# Altium footprint library SOP_80P_L.PcbLib: 9 footprints
Each footprint in its own frame and in the unit in brackets; x right, y up, seen from the top. Pads: shape width x height; smd on the part's side, far side on the other; paste and mask are expansions set on the pad; w line width, h text height; cw(c..) or ccw(c..) is an arc to the next point about the centre after c.
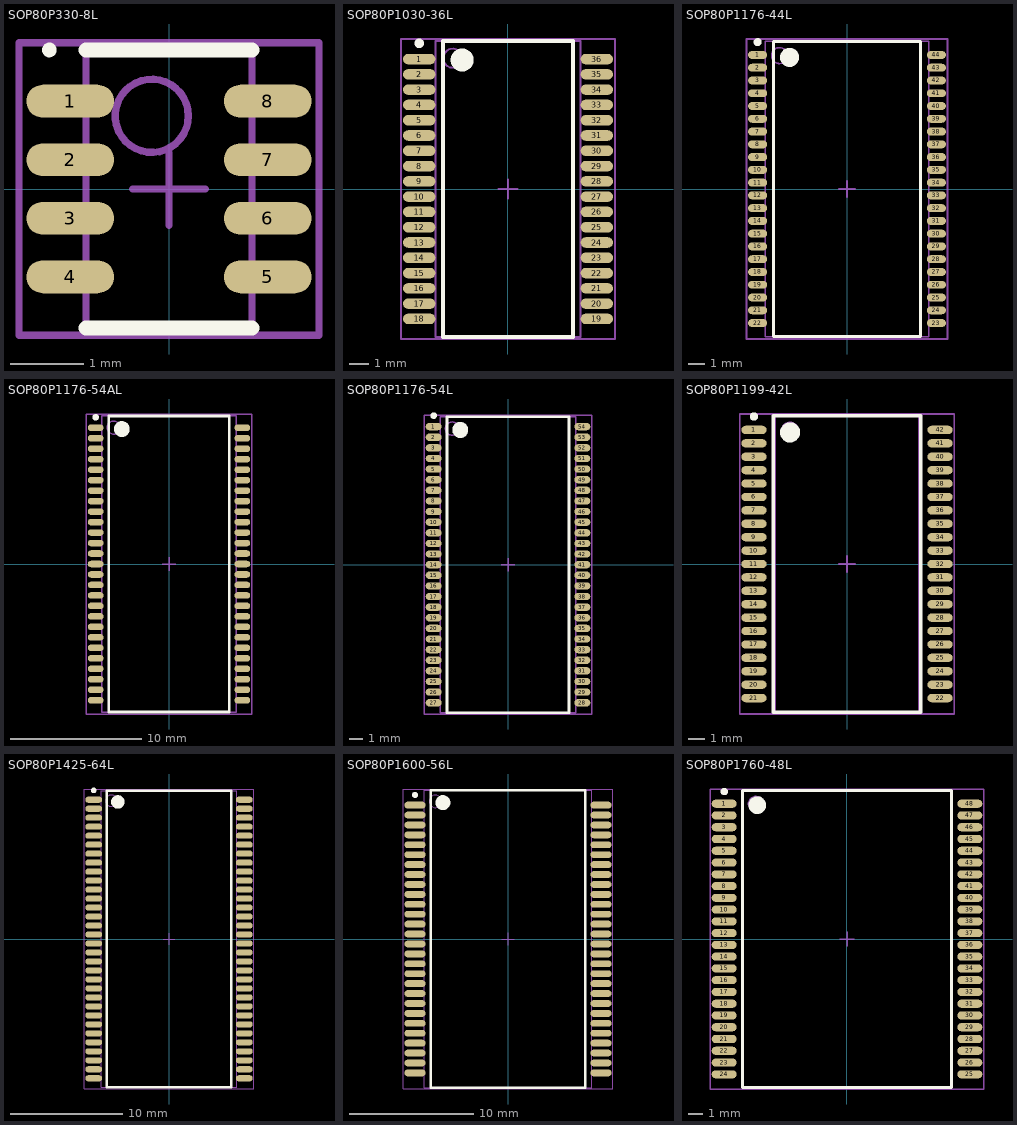
[diagram p0: the footprints below, top view; thin cyan lines are the x and y axes]

## SOP80P330-8L [mm] "SOP, 8-Leads, Body 3.5x2.2mm, Pitch 0.8mm, IPC High Density"
height 1.4
pads (8):
  oval 1.2x0.45 smd: 1(-1.35,1.2) 2(-1.35,0.4) 3(-1.35,-0.4) 4(-1.35,-1.2) 5(1.35,-1.2) 6(1.35,-0.4) 7(1.35,0.4) 8(1.35,1.2)
Top Overlay:
  circle w0.1: c-1.635,1.9 r0.05
  lines w0.2: -1.135,-1.9 1.135,-1.9 ; -1.135,1.9 1.135,1.9
Mechanical 13:
  circle w0.1: c-0.235,1 r0.5
  lines w0.1: -1.135,-1.9 1.135,-1.9 1.135,1.9 -1.135,1.9 -1.135,-1.9
Mechanical 15:
  lines w0.1: -0.5,0 0.5,0 ; 0,-0.5 0,0.5 ; -2.05,-2 2.05,-2 2.05,2 -2.05,2 -2.05,-2
3D body: height 1.4, standoff 0, extent -1.135,-1.9 1.135,1.9

## SOP80P1030-36L [mm] "SOP, 36-Leads, Body 15.4x7.5mm, Pitch 0.8mm, IPC High Density"
height 2.65
pads (36):
  oval 1.7x0.55 smd: 1(-4.65,6.8) 2(-4.65,6) 3(-4.65,5.2) 4(-4.65,4.4) 5(-4.65,3.6) 6(-4.65,2.8) 7(-4.65,2) 8(-4.65,1.2) 9(-4.65,0.4) 10(-4.65,-0.4) 11(-4.65,-1.2) 12(-4.65,-2) 13(-4.65,-2.8) 14(-4.65,-3.6) 15(-4.65,-4.4) 16(-4.65,-5.2) 17(-4.65,-6) 18(-4.65,-6.8) 19(4.65,-6.8) 20(4.65,-6) 21(4.65,-5.2) 22(4.65,-4.4) 23(4.65,-3.6) 24(4.65,-2.8) 25(4.65,-2) 26(4.65,-1.2) 27(4.65,-0.4) 28(4.65,0.4) 29(4.65,1.2) 30(4.65,2) 31(4.65,2.8) 32(4.65,3.6) 33(4.65,4.4) 34(4.65,5.2) 35(4.65,6) 36(4.65,6.8)
Top Overlay:
  circle w0.25: c-4.65,7.625 r0.125
  circle w0.6: c-2.4,6.75 r0.3
  lines w0.2: -3.4,-7.75 -3.4,7.75 3.4,7.75 3.4,-7.75 -3.4,-7.75
Mechanical 13:
  circle w0.1: c-2.885,6.845 r0.5
  lines w0.1: -3.785,-7.745 -3.785,7.745 3.785,7.745 3.785,-7.745 -3.785,-7.745
Mechanical 15:
  lines w0.1: -0.5,0 0.5,0 ; 0,-0.5 0,0.5 ; -5.6,-7.85 -5.6,7.85 5.6,7.85 5.6,-7.85 -5.6,-7.85
3D body: height 2.65, standoff 0, extent -3.785,-7.745 3.785,7.745

## SOP80P1176-44L [mm] "SOP, 44-Leads, Body 18.4x10.16mm, Pitch 0.8mm, IPC High Density"
height 1.2
pads (44):
  oval 1.2x0.5 smd: 1(-5.6,8.4) 2(-5.6,7.6) 3(-5.6,6.8) 4(-5.6,6) 5(-5.6,5.2) 6(-5.6,4.4) 7(-5.6,3.6) 8(-5.6,2.8) 9(-5.6,2) 10(-5.6,1.2) 11(-5.6,0.4) 12(-5.6,-0.4) 13(-5.6,-1.2) 14(-5.6,-2) 15(-5.6,-2.8) 16(-5.6,-3.6) 17(-5.6,-4.4) 18(-5.6,-5.2) 19(-5.6,-6) 20(-5.6,-6.8) 21(-5.6,-7.6) 22(-5.6,-8.4) 23(5.6,-8.4) 24(5.6,-7.6) 25(5.6,-6.8) 26(5.6,-6) 27(5.6,-5.2) 28(5.6,-4.4) 29(5.6,-3.6) 30(5.6,-2.8) 31(5.6,-2) 32(5.6,-1.2) 33(5.6,-0.4) 34(5.6,0.4) 35(5.6,1.2) 36(5.6,2) 37(5.6,2.8) 38(5.6,3.6) 39(5.6,4.4) 40(5.6,5.2) 41(5.6,6) 42(5.6,6.8) 43(5.6,7.6) 44(5.6,8.4)
Top Overlay:
  circle w0.6: c-3.6,8.25 r0.3
  circle w0.25: c-5.6,9.2 r0.125
  lines w0.2: -4.6,-9.25 4.6,-9.25 4.6,9.25 -4.6,9.25 -4.6,-9.25
Mechanical 13:
  circle w0.1: c-4.23,8.36 r0.5
  lines w0.1: -5.13,-9.26 5.13,-9.26 5.13,9.26 -5.13,9.26 -5.13,-9.26
Mechanical 15:
  lines w0.1: -0.5,0 0.5,0 ; 0,-0.5 0,0.5 ; -6.3,-9.4 6.3,-9.4 6.3,9.4 -6.3,9.4 -6.3,-9.4
3D body: height 1.2, standoff 0, extent -5.13,-9.26 5.13,9.26

## SOP80P1176-54AL [mm] "SOP, 54-Leads, Body 22.5x10.16mm, Pitch 0.8mm, IPC High Density"
height 1.2
pads (54):
  oval 1.2x0.5 smd: 1(-5.6,10.4) 2(-5.6,9.6) 3(-5.6,8.8) 4(-5.6,8) 5(-5.6,7.2) 6(-5.6,6.4) 7(-5.6,5.6) 8(-5.6,4.8) 9(-5.6,4) 10(-5.6,3.2) 11(-5.6,2.4) 12(-5.6,1.6) 13(-5.6,0.8) 14(-5.6,0) 15(-5.6,-0.8) 16(-5.6,-1.6) 17(-5.6,-2.4) 18(-5.6,-3.2) 19(-5.6,-4) 20(-5.6,-4.8) 21(-5.6,-5.6) 22(-5.6,-6.4) 23(-5.6,-7.2) 24(-5.6,-8) 25(-5.6,-8.8) 26(-5.6,-9.6) 27(-5.6,-10.4) 28(5.6,-10.4) 29(5.6,-9.6) 30(5.6,-8.8) 31(5.6,-8) 32(5.6,-7.2) 33(5.6,-6.4) 34(5.6,-5.6) 35(5.6,-4.8) 36(5.6,-4) 37(5.6,-3.2) 38(5.6,-2.4) 39(5.6,-1.6) 40(5.6,-0.8) 41(5.6,0) 42(5.6,0.8) 43(5.6,1.6) 44(5.6,2.4) 45(5.6,3.2) 46(5.6,4) 47(5.6,4.8) 48(5.6,5.6) 49(5.6,6.4) 50(5.6,7.2) 51(5.6,8) 52(5.6,8.8) 53(5.6,9.6) 54(5.6,10.4)
Top Overlay:
  circle w0.6: c-3.6,10.3 r0.3
  circle w0.25: c-5.6,11.2 r0.125
  lines w0.2: -4.6,-11.3 4.6,-11.3 4.6,11.3 -4.6,11.3 -4.6,-11.3
Mechanical 13:
  circle w0.1: c-4.22,10.41 r0.5
  lines w0.1: -5.12,-11.31 5.12,-11.31 5.12,11.31 -5.12,11.31 -5.12,-11.31
Mechanical 15:
  lines w0.1: -0.5,0 0.5,0 ; 0,-0.5 0,0.5 ; -6.3,-11.45 6.3,-11.45 6.3,11.45 -6.3,11.45 -6.3,-11.45
3D body: height 1.2, standoff 0, extent -5.12,-11.31 5.12,11.31

## SOP80P1176-54L [mm] "SOP, 54-Leads, Body 22.2x10.16mm, Pitch 0.8mm, IPC High Density"
height 1.2
pads (54):
  oval 1.2x0.55 smd: 1(-5.6,10.4) 2(-5.6,9.6) 3(-5.6,8.8) 4(-5.6,8) 5(-5.6,7.2) 6(-5.6,6.4) 7(-5.6,5.6) 8(-5.6,4.8) 9(-5.6,4) 10(-5.6,3.2) 11(-5.6,2.4) 12(-5.6,1.6) 13(-5.6,0.8) 14(-5.6,0) 15(-5.6,-0.8) 16(-5.6,-1.6) 17(-5.6,-2.4) 18(-5.6,-3.2) 19(-5.6,-4) 20(-5.6,-4.8) 21(-5.6,-5.6) 22(-5.6,-6.4) 23(-5.6,-7.2) 24(-5.6,-8) 25(-5.6,-8.8) 26(-5.6,-9.6) 27(-5.6,-10.4) 28(5.6,-10.4) 29(5.6,-9.6) 30(5.6,-8.8) 31(5.6,-8) 32(5.6,-7.2) 33(5.6,-6.4) 34(5.6,-5.6) 35(5.6,-4.8) 36(5.6,-4) 37(5.6,-3.2) 38(5.6,-2.4) 39(5.6,-1.6) 40(5.6,-0.8) 41(5.6,0) 42(5.6,0.8) 43(5.6,1.6) 44(5.6,2.4) 45(5.6,3.2) 46(5.6,4) 47(5.6,4.8) 48(5.6,5.6) 49(5.6,6.4) 50(5.6,7.2) 51(5.6,8) 52(5.6,8.8) 53(5.6,9.6) 54(5.6,10.4)
Top Overlay:
  circle w0.6: c-3.6,10.15 r0.3
  circle w0.25: c-5.6,11.225 r0.125
  lines w0.2: -4.6,-11.15 4.6,-11.15 4.6,11.15 -4.6,11.15 -4.6,-11.15
Mechanical 13:
  circle w0.1: c-4.22,10.25 r0.5
  lines w0.1: -5.12,-11.15 5.12,-11.15 5.12,11.15 -5.12,11.15 -5.12,-11.15
Mechanical 15:
  lines w0.1: -0.5,0 0.5,0 ; 0,-0.5 0,0.5 ; -6.3,-11.25 6.3,-11.25 6.3,11.25 -6.3,11.25 -6.3,-11.25
3D body: height 1.2, standoff 0, extent -5.12,-11.15 5.12,11.15

## SOP80P1199-42L [mm] "SOP, 42-Leads, Body 17.5x8.4mm, Pitch 0.8mm, IPC High Density"
height 2.4
pads (42):
  oval 1.5x0.5 smd: 1(-5.55,8) 2(-5.55,7.2) 3(-5.55,6.4) 4(-5.55,5.6) 5(-5.55,4.8) 6(-5.55,4) 7(-5.55,3.2) 8(-5.55,2.4) 9(-5.55,1.6) 10(-5.55,0.8) 11(-5.55,0) 12(-5.55,-0.8) 13(-5.55,-1.6) 14(-5.55,-2.4) 15(-5.55,-3.2) 16(-5.55,-4) 17(-5.55,-4.8) 18(-5.55,-5.6) 19(-5.55,-6.4) 20(-5.55,-7.2) 21(-5.55,-8) 22(5.55,-8) 23(5.55,-7.2) 24(5.55,-6.4) 25(5.55,-5.6) 26(5.55,-4.8) 27(5.55,-4) 28(5.55,-3.2) 29(5.55,-2.4) 30(5.55,-1.6) 31(5.55,-0.8) 32(5.55,0) 33(5.55,0.8) 34(5.55,1.6) 35(5.55,2.4) 36(5.55,3.2) 37(5.55,4) 38(5.55,4.8) 39(5.55,5.6) 40(5.55,6.4) 41(5.55,7.2) 42(5.55,8)
Top Overlay:
  circle w0.6: c-3.4,7.85 r0.3
  circle w0.25: c-5.55,8.8 r0.125
  lines w0.2: -4.4,-8.85 4.4,-8.85 4.4,8.85 -4.4,8.85 -4.4,-8.85
Mechanical 13:
  circle w0.1: c-3.4,7.95 r0.5
  lines w0.1: -4.3,-8.85 4.3,-8.85 4.3,8.85 -4.3,8.85 -4.3,-8.85
Mechanical 15:
  lines w0.1: -0.5,0 0.5,0 ; 0,-0.5 0,0.5 ; -6.4,-8.95 6.4,-8.95 6.4,8.95 -6.4,8.95 -6.4,-8.95
3D body: height 2.4, standoff 0, extent -4.3,-8.85 4.3,8.85

## SOP80P1425-64L [mm] "SOP, 64-Leads, Body 26.4x12.1mm, Pitch 0.8mm, IPC High Density"
height 2.38
pads (64):
  oval 1.5x0.55 smd: 1(-6.7,12.4) 2(-6.7,11.6) 3(-6.7,10.8) 4(-6.7,10) 5(-6.7,9.2) 6(-6.7,8.4) 7(-6.7,7.6) 8(-6.7,6.8) 9(-6.7,6) 10(-6.7,5.2) 11(-6.7,4.4) 12(-6.7,3.6) 13(-6.7,2.8) 14(-6.7,2) 15(-6.7,1.2) 16(-6.7,0.4) 17(-6.7,-0.4) 18(-6.7,-1.2) 19(-6.7,-2) 20(-6.7,-2.8) 21(-6.7,-3.6) 22(-6.7,-4.4) 23(-6.7,-5.2) 24(-6.7,-6) 25(-6.7,-6.8) 26(-6.7,-7.6) 27(-6.7,-8.4) 28(-6.7,-9.2) 29(-6.7,-10) 30(-6.7,-10.8) 31(-6.7,-11.6) 32(-6.7,-12.4) 33(6.7,-12.4) 34(6.7,-11.6) 35(6.7,-10.8) 36(6.7,-10) 37(6.7,-9.2) 38(6.7,-8.4) 39(6.7,-7.6) 40(6.7,-6.8) 41(6.7,-6) 42(6.7,-5.2) 43(6.7,-4.4) 44(6.7,-3.6) 45(6.7,-2.8) 46(6.7,-2) 47(6.7,-1.2) 48(6.7,-0.4) 49(6.7,0.4) 50(6.7,1.2) 51(6.7,2) 52(6.7,2.8) 53(6.7,3.6) 54(6.7,4.4) 55(6.7,5.2) 56(6.7,6) 57(6.7,6.8) 58(6.7,7.6) 59(6.7,8.4) 60(6.7,9.2) 61(6.7,10) 62(6.7,10.8) 63(6.7,11.6) 64(6.7,12.4)
Top Overlay:
  circle w0.6: c-4.55,12.2 r0.3
  circle w0.25: c-6.7,13.225 r0.125
  lines w0.2: -5.55,-13.2 5.55,-13.2 5.55,13.2 -5.55,13.2 -5.55,-13.2
Mechanical 13:
  circle w0.1: c-5.15,12.315 r0.5
  lines w0.1: -6.05,-13.215 6.05,-13.215 6.05,13.215 -6.05,13.215 -6.05,-13.215
Mechanical 15:
  lines w0.1: -0.5,0 0.5,0 ; 0,-0.5 0,0.5 ; -7.55,-13.35 7.55,-13.35 7.55,13.35 -7.55,13.35 -7.55,-13.35
3D body: height 2.38, standoff 0, extent -6.05,-13.215 6.05,13.215

## SOP80P1600-56L [mm] "SOP, 56-Leads, Body 23.7x13.3mm, Pitch 0.8mm, IPC High Density"
height 2
pads (56):
  oval 1.7x0.55 smd: 1(-7.5,10.8) 2(-7.5,10) 3(-7.5,9.2) 4(-7.5,8.4) 5(-7.5,7.6) 6(-7.5,6.8) 7(-7.5,6) 8(-7.5,5.2) 9(-7.5,4.4) 10(-7.5,3.6) 11(-7.5,2.8) 12(-7.5,2) 13(-7.5,1.2) 14(-7.5,0.4) 15(-7.5,-0.4) 16(-7.5,-1.2) 17(-7.5,-2) 18(-7.5,-2.8) 19(-7.5,-3.6) 20(-7.5,-4.4) 21(-7.5,-5.2) 22(-7.5,-6) 23(-7.5,-6.8) 24(-7.5,-7.6) 25(-7.5,-8.4) 26(-7.5,-9.2) 27(-7.5,-10) 28(-7.5,-10.8) 29(7.5,-10.8) 30(7.5,-10) 31(7.5,-9.2) 32(7.5,-8.4) 33(7.5,-7.6) 34(7.5,-6.8) 35(7.5,-6) 36(7.5,-5.2) 37(7.5,-4.4) 38(7.5,-3.6) 39(7.5,-2.8) 40(7.5,-2) 41(7.5,-1.2) 42(7.5,-0.4) 43(7.5,0.4) 44(7.5,1.2) 45(7.5,2) 46(7.5,2.8) 47(7.5,3.6) 48(7.5,4.4) 49(7.5,5.2) 50(7.5,6) 51(7.5,6.8) 52(7.5,7.6) 53(7.5,8.4) 54(7.5,9.2) 55(7.5,10) 56(7.5,10.8)
Top Overlay:
  circle w0.6: c-5.25,11 r0.3
  circle w0.25: c-7.5,11.625 r0.125
  lines w0.2: -6.25,-12 6.25,-12 6.25,12 -6.25,12 -6.25,-12
Mechanical 13:
  circle w0.1: c-5.85,11.1 r0.5
  lines w0.1: -6.75,-12 6.75,-12 6.75,12 -6.75,12 -6.75,-12
Mechanical 15:
  lines w0.1: -0.5,0 0.5,0 ; 0,-0.5 0,0.5 ; -8.45,-12.1 8.45,-12.1 8.45,12.1 -8.45,12.1 -8.45,-12.1
3D body: height 2, standoff 0, extent -6.75,-12 6.75,12

## SOP80P1760-48L [mm] "SOP, 48-Leads, Body 20x14mm, Pitch 0.8mm, IPC High Density"
height 2.3
pads (48):
  oval 1.7x0.55 smd: 1(-8.35,9.2) 2(-8.35,8.4) 3(-8.35,7.6) 4(-8.35,6.8) 5(-8.35,6) 6(-8.35,5.2) 7(-8.35,4.4) 8(-8.35,3.6) 9(-8.35,2.8) 10(-8.35,2) 11(-8.35,1.2) 12(-8.35,0.4) 13(-8.35,-0.4) 14(-8.35,-1.2) 15(-8.35,-2) 16(-8.35,-2.8) 17(-8.35,-3.6) 18(-8.35,-4.4) 19(-8.35,-5.2) 20(-8.35,-6) 21(-8.35,-6.8) 22(-8.35,-7.6) 23(-8.35,-8.4) 24(-8.35,-9.2) 25(8.35,-9.2) 26(8.35,-8.4) 27(8.35,-7.6) 28(8.35,-6.8) 29(8.35,-6) 30(8.35,-5.2) 31(8.35,-4.4) 32(8.35,-3.6) 33(8.35,-2.8) 34(8.35,-2) 35(8.35,-1.2) 36(8.35,-0.4) 37(8.35,0.4) 38(8.35,1.2) 39(8.35,2) 40(8.35,2.8) 41(8.35,3.6) 42(8.35,4.4) 43(8.35,5.2) 44(8.35,6) 45(8.35,6.8) 46(8.35,7.6) 47(8.35,8.4) 48(8.35,9.2)
Top Overlay:
  circle w0.6: c-6.1,9.1 r0.3
  circle w0.25: c-8.35,10.025 r0.125
  lines w0.2: -7.1,-10.1 7.1,-10.1 7.1,10.1 -7.1,10.1 -7.1,-10.1
Mechanical 13:
  circle w0.1: c-6.2,9.2 r0.5
  lines w0.1: -7.1,-10.1 7.1,-10.1 7.1,10.1 -7.1,10.1 -7.1,-10.1
Mechanical 15:
  lines w0.1: -0.5,0 0.5,0 ; 0,-0.5 0,0.5 ; -9.3,-10.2 9.3,-10.2 9.3,10.2 -9.3,10.2 -9.3,-10.2
3D body: height 2.3, standoff 0, extent -7.1,-10.1 7.1,10.1